# EAGLE library part MC7 (library con-phoenix-381_l)
Mini-Combicon 3.81mm horizontal 7-polig MC 1,5/7-G-3,81 Artikel-Nr. 1803329
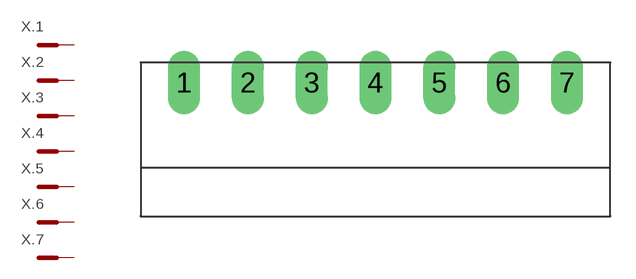
[diagram p11: symbol with the pads of MC7; footprint MC7]

Designator prefix X; gates .1=MCST .2=MCST .3=MCST .4=MCST .5=MCST .6=MCST .7=MCST

## MC7  [MC7]
1  .1:SK  pas
2  .2:SK  pas
3  .3:SK  pas
4  .4:SK  pas
5  .5:SK  pas
6  .6:SK  pas
7  .7:SK  pas

## Footprint MC7 (pad centres in mm)
Mini-Combicon 3.81mm horizontal 7-polig MC 1,5/7-G-3,81 Artikel-Nr. 1803329
drill 1.27 long: 1 -11.43,0; 2 -7.62,0; 3 -3.81,0; 4 0,0; 5 3.81,0; 6 7.62,0; 7 11.43,0